# Altium integrated library SN75176AD.IntLib: 1 symbol
Pins are listed as number, name and electrical type; pins without a type are passive.

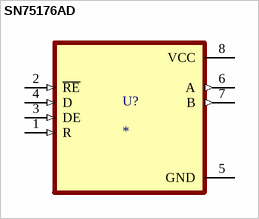
[diagram p0: symbol SN75176AD]

## SN75176AD
designator U?
Differential Bus Transceiver 8-SOIC 0 to 70; MP: SN75176AD; MF: Texas Instruments; SnapEDA_Link: https://www.snapeda.com/parts/SN75176AD/Texas%20Instruments/view-part/236116/?ref=snap; Availability: Warning; Package: SOIC-8 Texas Instruments; Purchase-URL: https://pricing.snapeda.com/search/part/SN75176AD/?ref=eda; Check_prices: https://www.snapeda.com/parts/SN75176AD/Texas%20Instruments/view-part/236116/?ref=eda; Value: *; Price: None
footprint SOIC127P599X175-8N
pins: 1 R (in), 2 ~{RE} (in), 3 DE (in), 4 D (in), 5 GND (power), 6 A (out), 7 B (out), 8 VCC (power)